# Altium footprint library NREC004SABC-M30RC.PcbLib: 1 footprints
Each footprint in its own frame and in the unit in brackets; x right, y up, seen from the top. Pads: shape width x height; smd on the part's side, far side on the other; paste and mask are expansions set on the pad; w line width, h text height; cw(c..) or ccw(c..) is an arc to the next point about the centre after c.
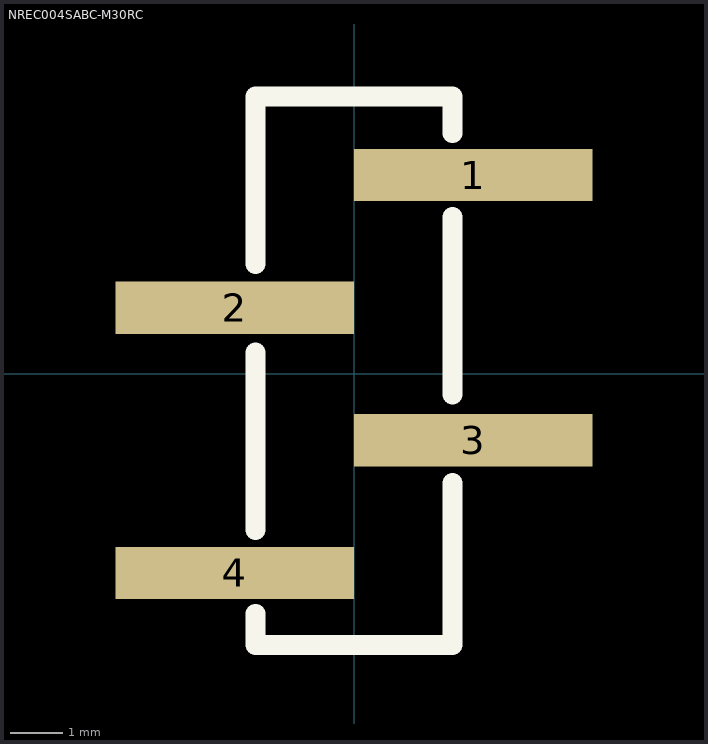
[diagram p0: the footprint, top view; thin cyan lines are the x and y axes]

## NREC004SABC-M30RC [mm]
pads (4):
  rect 4.565x1 smd: 1(2.282,3.81) 2(-2.283,1.27) 3(2.282,-1.27) 4(-2.283,-3.81)
Top Overlay:
  lines w0.381: -1.883,-4.59 -1.883,-5.19 1.882,-5.19 1.882,-2.09 ; -1.883,-2.99 -1.883,0.41 ; -1.883,2.11 -1.883,5.31 1.882,5.31 1.882,4.61 ; 1.882,-0.39 1.882,3.01
3D body "TSM-104-01-T-SV.stp": height 9.66, standoff 0.01, extent -2.642,-5.08 2.642,5.08